# Altium schematic symbol library FUSRLINK.SchLib: 1 symbol
Pins are listed as number, name and electrical type; pins without a type are passive.

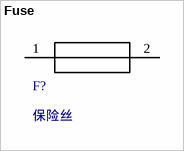
[diagram p0: symbol Fuse]

## Fuse
designator F?, comment 保险丝
ComponentLink1Description: 立创; ComponentLink1URL: https://item.szlcsc.com/3142695.html
footprint 1206_R
pins: 1, 2